# Altium footprint library 0805 Kemet Capacitor Footprints.PcbLib: 7 footprints
Each footprint in its own frame and in the unit in brackets; x right, y up, seen from the top. Pads: shape width x height; smd on the part's side, far side on the other; paste and mask are expansions set on the pad; w line width, h text height; cw(c..) or ccw(c..) is an arc to the next point about the centre after c.
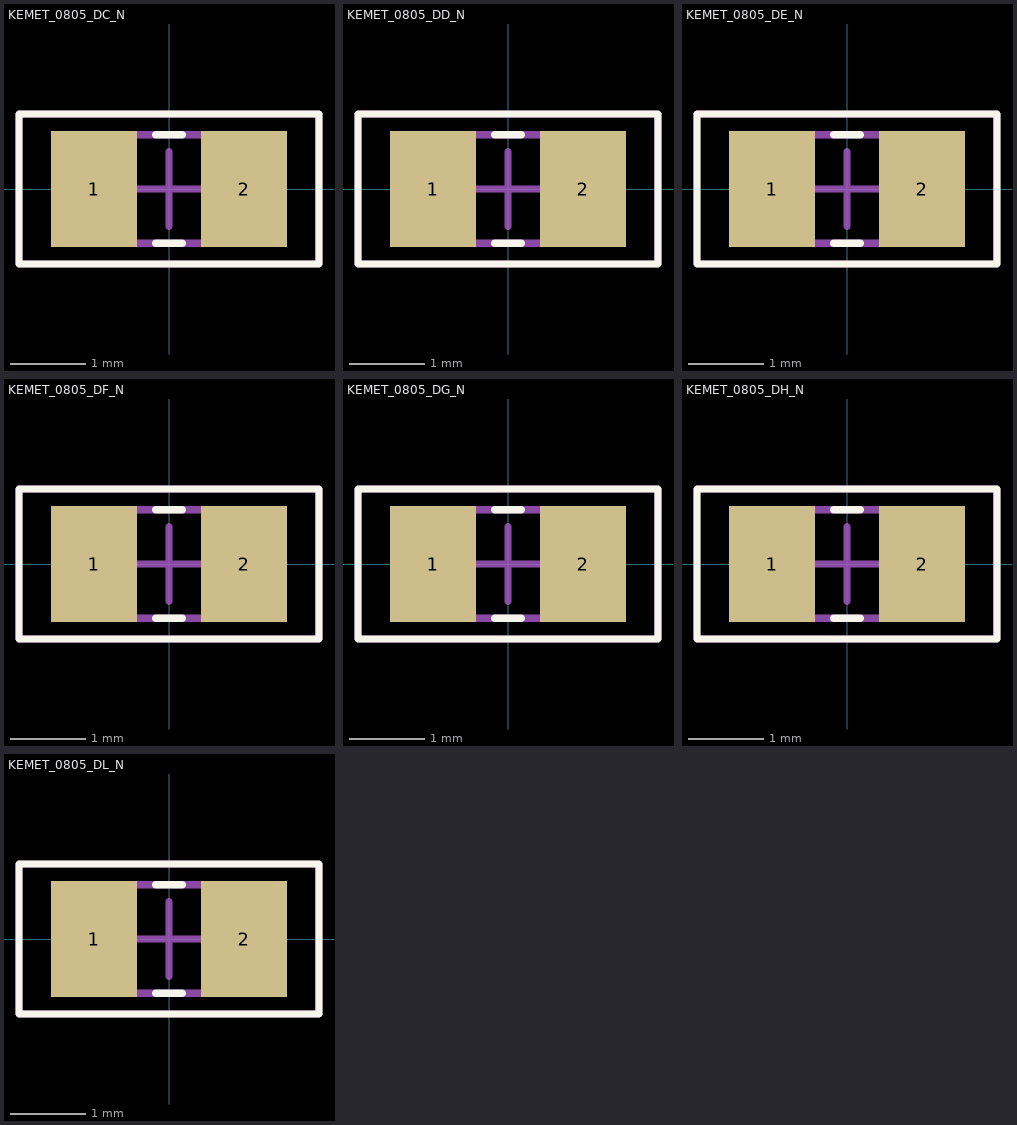
[diagram p0: the footprints below, top view; thin cyan lines are the x and y axes]

## KEMET_0805_DC_N [mm] "Chip Capacitor, 2-Leads, Body 2.0x1.3mm, IPC Medium Density"
height 0.88
pads (2):
  rect 1.15x1.55 smd: 1(-1,0) 2(1,0)
Top Overlay:
  lines w0.1: -0.175,-0.725 0.175,-0.725 ; -0.175,0.725 0.175,0.725 ; -2,-1 2,-1 2,1 -2,1 -2,-1
Mechanical 13:
  lines w0.1: -1.1,-0.725 -1.1,0.725 1.1,0.725 1.1,-0.725 -1.1,-0.725
Mechanical 15:
  lines w0.1: -0.5,0 0.5,0 ; 0,-0.5 0,0.5 ; -2,-1 -2,1 2,1 2,-1 -2,-1
3D body: height 0.88, standoff 0, extent -1.1,-0.725 1.1,0.725

## KEMET_0805_DD_N [mm] "Chip Capacitor, 2-Leads, Body 2.0x1.3mm, IPC Medium Density"
height 1
pads (2):
  rect 1.15x1.55 smd: 1(-1,0) 2(1,0)
Top Overlay:
  lines w0.1: -0.175,-0.725 0.175,-0.725 ; -0.175,0.725 0.175,0.725 ; -2,-1 2,-1 2,1 -2,1 -2,-1
Mechanical 13:
  lines w0.1: -1.1,-0.725 -1.1,0.725 1.1,0.725 1.1,-0.725 -1.1,-0.725
Mechanical 15:
  lines w0.1: -0.5,0 0.5,0 ; 0,-0.5 0,0.5 ; -2,-1 -2,1 2,1 2,-1 -2,-1
3D body: height 1, standoff 0, extent -1.1,-0.725 1.1,0.725

## KEMET_0805_DE_N [mm] "Chip Capacitor, 2-Leads, Body 2.0x1.3mm, IPC Medium Density"
height 1.1
pads (2):
  rect 1.15x1.55 smd: 1(-1,0) 2(1,0)
Top Overlay:
  lines w0.1: -0.175,-0.725 0.175,-0.725 ; -0.175,0.725 0.175,0.725 ; -2,-1 -2,1 2,1 2,-1 -2,-1
Mechanical 13:
  lines w0.1: -1.1,-0.725 1.1,-0.725 1.1,0.725 -1.1,0.725 -1.1,-0.725
Mechanical 15:
  lines w0.1: -0.5,0 0.5,0 ; 0,-0.5 0,0.5 ; -2,-1 2,-1 2,1 -2,1 -2,-1
3D body: height 1.1, standoff 0, extent -1.1,-0.725 1.1,0.725

## KEMET_0805_DF_N [mm] "Chip Capacitor, 2-Leads, Body 2.0x1.3mm, IPC Medium Density"
height 1.2
pads (2):
  rect 1.15x1.55 smd: 1(-1,0) 2(1,0)
Top Overlay:
  lines w0.1: -0.175,-0.725 0.175,-0.725 ; -0.175,0.725 0.175,0.725 ; -2,-1 2,-1 2,1 -2,1 -2,-1
Mechanical 13:
  lines w0.1: -1.1,-0.725 -1.1,0.725 1.1,0.725 1.1,-0.725 -1.1,-0.725
Mechanical 15:
  lines w0.1: -0.5,0 0.5,0 ; 0,-0.5 0,0.5 ; -2,-1 -2,1 2,1 2,-1 -2,-1
3D body: height 1.2, standoff 0, extent -1.1,-0.725 1.1,0.725

## KEMET_0805_DG_N [mm] "Chip Capacitor, 2-Leads, Body 2.0x1.3mm, IPC Medium Density"
height 1.4
pads (2):
  rect 1.15x1.55 smd: 1(-1,0) 2(1,0)
Top Overlay:
  lines w0.1: -0.175,-0.725 0.175,-0.725 ; -0.175,0.725 0.175,0.725 ; -2,-1 -2,1 2,1 2,-1 -2,-1
Mechanical 13:
  lines w0.1: -1.1,-0.725 1.1,-0.725 1.1,0.725 -1.1,0.725 -1.1,-0.725
Mechanical 15:
  lines w0.1: -0.5,0 0.5,0 ; 0,-0.5 0,0.5 ; -2,-1 2,-1 2,1 -2,1 -2,-1
3D body: height 1.4, standoff 0, extent -1.1,-0.725 1.1,0.725

## KEMET_0805_DH_N [mm] "Chip Capacitor, 2-Leads, Body 2.0x1.3mm, IPC Medium Density"
height 1.45
pads (2):
  rect 1.15x1.55 smd: 1(-1,0) 2(1,0)
Top Overlay:
  lines w0.1: -0.175,-0.725 0.175,-0.725 ; -0.175,0.725 0.175,0.725 ; -2,-1 2,-1 2,1 -2,1 -2,-1
Mechanical 13:
  lines w0.1: -1.1,-0.725 -1.1,0.725 1.1,0.725 1.1,-0.725 -1.1,-0.725
Mechanical 15:
  lines w0.1: -0.5,0 0.5,0 ; 0,-0.5 0,0.5 ; -2,-1 -2,1 2,1 2,-1 -2,-1
3D body: height 1.45, standoff 0, extent -1.1,-0.725 1.1,0.725

## KEMET_0805_DL_N [mm] "Chip Capacitor, 2-Leads, Body 2.0x1.3mm, IPC Medium Density"
height 1.05
pads (2):
  rect 1.15x1.55 smd: 1(-1,0) 2(1,0)
Top Overlay:
  lines w0.1: -0.175,-0.725 0.175,-0.725 ; -0.175,0.725 0.175,0.725 ; -2,-1 2,-1 2,1 -2,1 -2,-1
Mechanical 13:
  lines w0.1: -1.1,-0.725 -1.1,0.725 1.1,0.725 1.1,-0.725 -1.1,-0.725
Mechanical 15:
  lines w0.1: -0.5,0 0.5,0 ; 0,-0.5 0,0.5 ; -2,-1 -2,1 2,1 2,-1 -2,-1
3D body: height 1.05, standoff 0, extent -1.1,-0.725 1.1,0.725